# Altium footprint library trafo.PCBLIB: 80 footprints (part 3 of 5)
Each footprint in its own frame and in the unit in brackets; x right, y up, seen from the top. Pads: shape width x height; smd on the part's side, far side on the other; paste and mask are expansions set on the pad; w line width, h text height; cw(c..) or ccw(c..) is an arc to the next point about the centre after c.
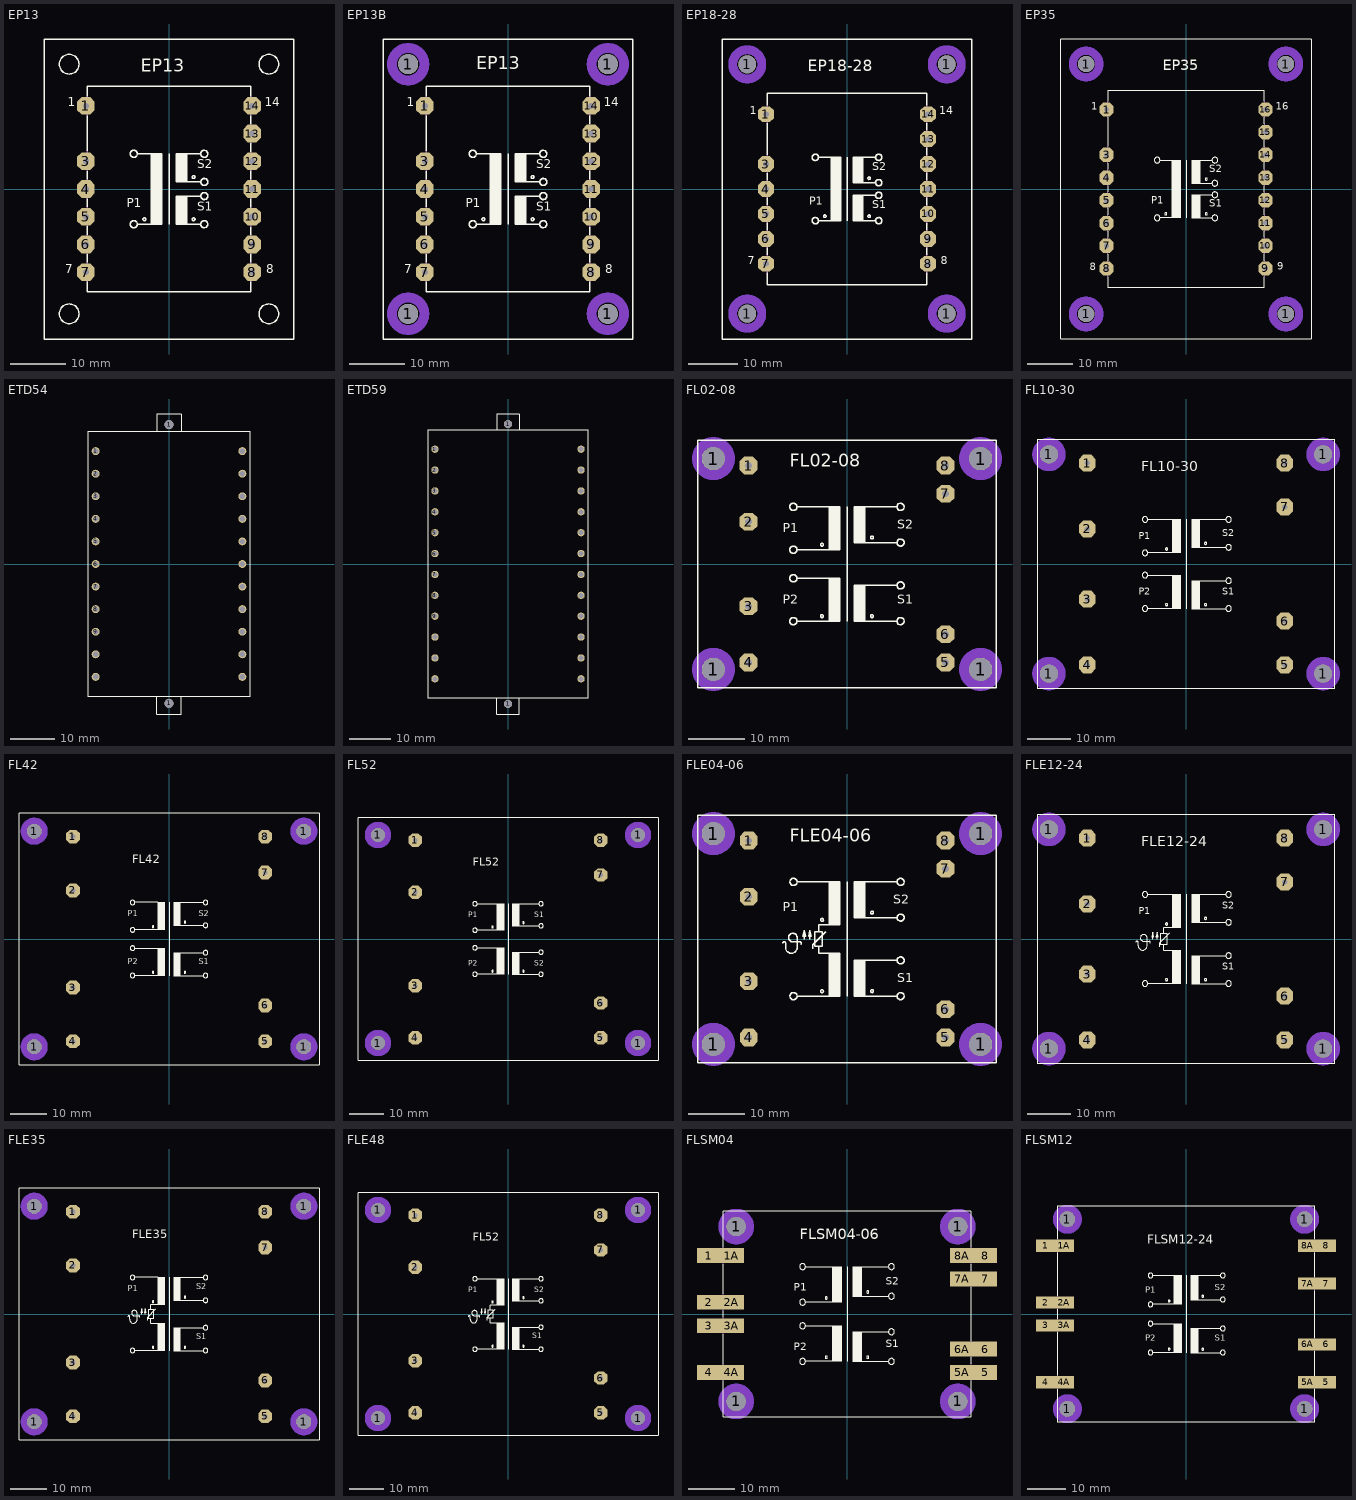
[diagram p2: the footprints below, top view; thin cyan lines are the x and y axes]

## EP13 [mil]
pads (13):
  oct 125x125 hole 44: 1(-590,590) 3(-590,197) 4(-590,0) 5(-590,-197) 6(-590,-394) 7(-590,-590) 8(590,-590) 9(590,-394) 10(590,-197) 11(590,0) 12(590,197) 13(590,394) 14(590,590)
Top Overlay:
  circle w10: c709,-886 r70
  circle w10: c-709,-886 r70
  circle w10: c-709,886 r70
  circle w10: c709,886 r70
  circle w10: c-175,-215 r10
  circle w10: c175,85 r10
  circle w10: c175,-215 r10
  circle w10: c-250,-250 r25
  circle w10: c-250,250 r25
  circle w10: c250,250 r25
  circle w10: c250,-250 r25
  circle w10: c250,-50 r25
  circle w10: c250,50 r25
  rectangle: -125,-250 -50,250
  rectangle: 50,50 125,250
  rectangle: 50,-250 125,-50
  lines w10: -580,-660 -580,-730 580,-730 580,-660 ; -580,-520 -580,-465 ; -580,-325 -580,-265 ; -580,-125 -580,-70 ; -580,70 -580,125 ; -580,270 -580,520 ; -580,660 -580,730 580,730 580,660 ; -225,-250 -125,-250 ; -225,250 -125,250 ; 0,-250 0,250 ; 225,-250 125,-250 ; 225,-50 125,-50 ; 225,50 125,50 ; 225,250 125,250 ; 580,-520 580,-465 ; 580,-325 580,-270 ; 580,-130 580,-70 ; 580,70 580,130 ; 580,265 580,325 ; 580,465 580,520 ; -125,-250 -125,250 ; -125,-250 -50,-250 -50,250 -125,250 ; 125,-250 50,-250 50,-50 125,-50 ; 125,-250 125,-50 ; 125,50 50,50 50,250 125,250 ; 125,50 125,250 ; -885,-1065 885,-1065 885,1065 -885,1065 -885,-1065
  text "1" at -720,565 h108.5
  text "S1" at 200,-175 h108.5
  text "P1" at -300,-150 h108.5
  text "S2" at 200,125 h108.5
  text "EP13" at -200,800 h155
  text "7" at -735,-620 h108.5
  text "8" at 690,-620 h108.5
  text "14" at 680,565 h108.5
Mechanical 16:
  lines w10: -580,-660 -580,-520 ; -580,-465 -580,-325 ; -580,-265 -580,-125 ; -580,-70 -580,70 ; -580,125 -580,270 ; -580,520 -580,660 ; 580,-660 580,-520 ; 580,-465 580,-325 ; 580,-270 580,-130 ; 580,-70 580,70 ; 580,130 580,265 ; 580,325 580,465 ; 580,520 580,660

## EP13B [mil]
pads (17):
  round 142 hole 142: 1(-709,-886) 1(-709,886) 1(709,-886) 1(709,886)
  oct 125x125 hole 44: 1(-590,590) 3(-590,197) 4(-590,0) 5(-590,-197) 6(-590,-394) 7(-590,-590) 8(590,-590) 9(590,-394) 10(590,-197) 11(590,0) 12(590,197) 13(590,394) 14(590,590)
Bottom Layer keep-out:
  circle w70: c-709,-886 r115
  circle w70: c-709,886 r115
  circle w70: c709,886 r115
  circle w70: c709,-886 r115
Top Overlay:
  circle w10: c-175,-215 r10
  circle w10: c175,85 r10
  circle w10: c175,-215 r10
  circle w10: c-250,-250 r25
  circle w10: c-250,250 r25
  circle w10: c250,250 r25
  circle w10: c250,-250 r25
  circle w10: c250,-50 r25
  circle w10: c250,50 r25
  rectangle: -125,-250 -50,250
  rectangle: 50,50 125,250
  rectangle: 50,-250 125,-50
  lines w10: -580,-660 -580,-730 580,-730 580,-660 ; -580,-520 -580,-465 ; -580,-325 -580,-265 ; -580,-125 -580,-70 ; -580,70 -580,125 ; -580,270 -580,520 ; -580,660 -580,730 580,730 580,660 ; -225,-250 -125,-250 ; -225,250 -125,250 ; 0,-250 0,250 ; 225,-250 125,-250 ; 225,-50 125,-50 ; 225,50 125,50 ; 225,250 125,250 ; 580,-520 580,-465 ; 580,-325 580,-270 ; 580,-130 580,-70 ; 580,70 580,130 ; 580,265 580,325 ; 580,465 580,520 ; -125,-250 -125,250 ; -125,-250 -50,-250 -50,250 -125,250 ; 125,-250 50,-250 50,-50 125,-50 ; 125,-250 125,-50 ; 125,50 50,50 50,250 125,250 ; 125,50 125,250 ; -885,-1065 885,-1065 885,1065 -885,1065 -885,-1065
  text "1" at -720,565 h108.5
  text "S1" at 200,-175 h108.5
  text "P1" at -300,-150 h108.5
  text "S2" at 200,125 h108.5
  text "EP13" at -225,820 h155
  text "7" at -735,-620 h108.5
  text "8" at 690,-620 h108.5
  text "14" at 680,565 h108.5
Mechanical 16:
  lines w10: -580,-660 -580,-520 ; -580,-465 -580,-325 ; -580,-265 -580,-125 ; -580,-70 -580,70 ; -580,125 -580,270 ; -580,520 -580,660 ; 580,-660 580,-520 ; 580,-465 580,-325 ; 580,-270 580,-130 ; 580,-70 580,70 ; 580,130 580,265 ; 580,325 580,465 ; 580,520 580,660
Via Holes:
  circle w70: c-709,-886 r115
  circle w70: c-709,886 r115
  circle w70: c709,886 r115
  circle w70: c709,-886 r115

## EP18-28 [mil]
pads (17):
  round 142 hole 142: 1(-788,-985) 1(-788,985) 1(788,-985) 1(788,985)
  oct 125x125 hole 44: 1(-640,590) 3(-640,197) 4(-640,0) 5(-640,-197) 6(-640,-394) 7(-640,-590) 8(640,-590) 9(640,-394) 10(640,-197) 11(640,0) 12(640,197) 13(640,394) 14(640,590)
Bottom Layer keep-out:
  circle w70: c-788,-985 r115
  circle w70: c-788,985 r115
  circle w70: c788,985 r115
  circle w70: c788,-985 r115
Top Overlay:
  circle w10: c-175,-215 r10
  circle w10: c175,85 r10
  circle w10: c175,-215 r10
  circle w10: c-250,-250 r25
  circle w10: c-250,250 r25
  circle w10: c250,250 r25
  circle w10: c250,-250 r25
  circle w10: c250,-50 r25
  circle w10: c250,50 r25
  rectangle: -125,-250 -50,250
  rectangle: 50,50 125,250
  rectangle: 50,-250 125,-50
  lines w10: -630,-660 -630,-755 630,-755 630,-660 ; -630,-520 -630,-465 ; -630,-325 -630,-265 ; -630,-125 -630,-70 ; -630,70 -630,125 ; -630,270 -630,520 ; -630,660 -630,755 630,755 630,660 ; -225,-250 -125,-250 ; -225,250 -125,250 ; 0,-250 0,250 ; 225,-250 125,-250 ; 225,-50 125,-50 ; 225,50 125,50 ; 225,250 125,250 ; 630,-520 630,-465 ; 630,-325 630,-270 ; 630,-130 630,-70 ; 630,70 630,130 ; 630,265 630,325 ; 630,465 630,520 ; -125,-250 -125,250 ; -125,-250 -50,-250 -50,250 -125,250 ; 125,-250 50,-250 50,-50 125,-50 ; 125,-250 125,-50 ; 125,50 50,50 50,250 125,250 ; 125,50 125,250 ; -985,-1185 985,-1185 985,1185 -985,1185 -985,-1185
  text "1" at -770,565 h108.5
  text "S1" at 200,-175 h108.5
  text "P1" at -300,-150 h108.5
  text "S2" at 200,125 h108.5
  text "7" at -785,-620 h108.5
  text "8" at 740,-620 h108.5
  text "14" at 730,565 h108.5
  text "EP18-28" at -310,900 h155
Mechanical 16:
  lines w10: -630,-660 -630,-520 ; -630,-465 -630,-325 ; -630,-265 -630,-125 ; -630,-70 -630,70 ; -630,125 -630,270 ; -630,520 -630,660 ; 630,-660 630,-520 ; 630,-465 630,-325 ; 630,-270 630,-130 ; 630,-70 630,70 ; 630,130 630,265 ; 630,325 630,465 ; 630,520 630,660
Via Holes:
  circle w70: c-788,-985 r115
  circle w70: c-788,985 r115
  circle w70: c788,985 r115
  circle w70: c788,-985 r115

## EP35 [mil]
pads (19):
  round 142 hole 142: 1(-866,-1083) 1(-866,1083) 1(866,-1083) 1(866,1083)
  oct 125x125 hole 44: 1(-689,689) 3(-689,296) 4(-689,99) 5(-689,-99) 6(-689,-296) 7(-689,-492) 8(-689,-689) 9(689,-689) 10(689,-492) 11(689,-296) 12(689,-99) 13(689,99) 14(689,296) 15(689,492) 16(689,689)
Bottom Layer keep-out:
  circle w70: c-866,-1083 r115
  circle w70: c-866,1083 r115
  circle w70: c866,1083 r115
  circle w70: c866,-1083 r115
Top Overlay:
  circle w10: c-175,-215 r10
  circle w10: c175,85 r10
  circle w10: c175,-215 r10
  circle w10: c-250,-250 r25
  circle w10: c-250,250 r25
  circle w10: c250,250 r25
  circle w10: c250,-250 r25
  circle w10: c250,-50 r25
  circle w10: c250,50 r25
  rectangle: -125,-250 -50,250
  rectangle: 50,50 125,250
  rectangle: 50,-250 125,-50
  lines w10: -680,-760 -680,-855 680,-855 680,-760 ; -680,-620 -680,-565 ; -680,-420 -680,-365 ; -680,-225 -680,-165 ; -680,-25 -680,30 ; -680,170 -680,225 ; -680,370 -680,620 ; -680,760 -680,855 680,855 680,760 ; -225,-250 -125,-250 ; -225,250 -125,250 ; 0,-250 0,250 ; 225,-250 125,-250 ; 225,-50 125,-50 ; 225,50 125,50 ; 225,250 125,250 ; 680,-620 680,-560 ; 680,-420 680,-365 ; 680,-225 680,-170 ; 680,-30 680,30 ; 680,170 680,230 ; 680,365 680,425 ; 680,565 680,620 ; -125,-250 -125,250 ; -125,-250 -50,-250 -50,250 -125,250 ; 125,-250 50,-250 50,-50 125,-50 ; 125,-250 125,-50 ; 125,50 50,50 50,250 125,250 ; 125,50 125,250 ; -1085,-1300 1085,-1300 1085,1300 -1085,1300 -1085,-1300
  text "1" at -820,665 h108.5
  text "S1" at 200,-175 h108.5
  text "P1" at -300,-150 h108.5
  text "S2" at 200,125 h108.5
  text "EP35" at -200,1000 h155
  text "8" at -835,-725 h108.5
  text "9" at 790,-720 h108.5
  text "16" at 780,665 h108.5
Mechanical 16:
  lines w10: -680,-760 -680,-620 ; -680,-565 -680,-420 ; -680,-365 -680,-225 ; -680,-165 -680,-25 ; -680,30 -680,170 ; -680,225 -680,370 ; -680,620 -680,760 ; 680,-760 680,-620 ; 680,-560 680,-420 ; 680,-365 680,-225 ; 680,-170 680,-30 ; 680,30 680,170 ; 680,230 680,365 ; 680,425 680,565 ; 680,620 680,760
Via Holes:
  circle w70: c-866,-1083 r115
  circle w70: c-866,1083 r115
  circle w70: c866,1083 r115
  circle w70: c866,-1083 r115

## ETD54 [mil]
pads (24):
  round 70 hole 47.24: 1(-650,1000) 2(-650,800) 3(-650,600) 4(-650,400) 5(-650,200) 6(-650,0) 7(-650,-200) 8(-650,-400) 9(-650,-600) 10(-650,-800) 11(-650,-1000) 12(650,-1000) 13(650,-800) 14(650,-600) 15(650,-400) 16(650,-200) 17(650,0) 18(650,200) 19(650,400) 20(650,600) 21(650,800) 22(650,1000)
  round 78.74 hole 78.74: 1(0,-1234.25) 1(0,1234.25)
Top Overlay:
  lines w8: -106.3,-1177.17 -106.3,-1328.74 106.3,-1328.74 106.3,-1177.17 ; -106.3,1177.17 -716.54,1177.17 -716.54,-1177.17 716.54,-1177.17 716.54,1177.17 106.3,1177.17 ; -106.3,1177.17 106.3,1177.17 ; -106.3,1177.17 -106.3,1328.74 106.3,1328.74 106.3,1177.17

## ETD59 [mil]
pads (26):
  round 70 hole 47.24: 1(-700,1100) 2(-700,900) 3(-700,700) 4(-700,500) 5(-700,300) 6(-700,100) 7(-700,-100) 8(-700,-300) 9(-700,-500) 10(-700,-700) 11(-700,-900) 12(-700,-1100) 13(700,-1100) 14(700,-900) 15(700,-700) 16(700,-500) 17(700,-300) 18(700,-100) 19(700,100) 20(700,300) 21(700,500) 22(700,700) 23(700,900) 24(700,1100)
  round 78.74 hole 78.74: 1(0,-1340.55) 1(0,1340.55)
Top Overlay:
  lines w8: -106.3,-1285.43 -106.3,-1437.01 106.3,-1437.01 106.3,-1285.43 ; -106.3,1285.43 -765.75,1285.43 -765.75,-1285.43 764.76,-1284.45 765.75,1285.43 106.3,1285.43 ; -106.3,1285.43 106.3,1285.43 ; -106.3,1285.43 -106.3,1437.01 106.3,1437.01 106.3,1285.43

## FL02-08 [mil]
pads (12):
  round 162 hole 162: 1(-935,-738) 1(-935,738) 1(935,-738) 1(935,738)
  oct 125x125 hole 47: 1(-689,689) 2(-689,296) 3(-689,-296) 4(-689,-689) 5(689,-689) 6(689,-492) 7(689,492) 8(689,689)
Bottom Layer keep-out:
  circle w70: c935,738 r115
  circle w70: c935,-738 r115
  circle w70: c-935,-738 r115
  circle w70: c-935,738 r115
Top Overlay:
  circle w10: c-175,135 r10
  circle w10: c175,185 r10
  circle w10: c175,-365 r10
  circle w10: c-175,-365 r10
  circle w10: c375,150 r25
  circle w10: c375,400 r25
  circle w10: c-375,400 r25
  circle w10: c-375,100 r25
  circle w10: c-375,-100 r25
  circle w10: c-375,-400 r25
  circle w10: c375,-400 r25
  circle w10: c375,-150 r25
  rectangle: -125,100 -50,400
  rectangle: 50,150 125,400
  rectangle: -125,-400 -50,-100
  rectangle: 50,-400 125,-150
  lines w10: -350,-400 -125,-400 ; -350,-100 -125,-100 ; -350,100 -125,100 ; -350,400 -125,400 ; 0,-400 0,400 ; 350,-400 125,-400 ; 350,-150 125,-150 ; 350,150 125,150 ; 350,400 125,400 ; -125,-400 -125,-100 ; -125,-400 -50,-400 -50,-100 -125,-100 ; -125,100 -125,400 ; -125,100 -50,100 -50,400 -125,400 ; 125,-400 50,-400 50,-150 125,-150 ; 125,-400 125,-150 ; 125,150 50,150 50,400 125,400 ; 125,150 125,400 ; -1044,-866 1044,-866 1044,866 -1044,866 -1044,-866
  text "S1" at 350,-300 h108.5
  text "S2" at 350,225 h108.5
  text "P2" at -450,-300 h108.5
  text "P1" at -450,200 h108.5
  text "FL02-08" at -400,650 h155
Via Holes:
  circle w70: c935,738 r115
  circle w70: c935,-738 r115
  circle w70: c-935,-738 r115
  circle w70: c-935,738 r115

## FL10-30 [mil]
pads (12):
  round 162 hole 162: 1(-1231,-984) 1(-1231,984) 1(1231,-984) 1(1231,984)
  oct 150x150 hole 47: 1(-886,906) 2(-886,315) 3(-886,-315) 4(-886,-906) 5(886,-906) 6(886,-512) 7(886,512) 8(886,906)
Bottom Layer keep-out:
  circle w70: c-1231,984 r115
  circle w70: c1231,984 r115
  circle w70: c1231,-984 r115
  circle w70: c-1231,-984 r115
Top Overlay:
  circle w10: c-175,135 r10
  circle w10: c175,185 r10
  circle w10: c175,-365 r10
  circle w10: c-175,-365 r10
  circle w10: c382,150 r25
  circle w10: c382,400 r25
  circle w10: c-368,400 r25
  circle w10: c-368,100 r25
  circle w10: c-368,-100 r25
  circle w10: c-368,-400 r25
  circle w10: c382,-400 r25
  circle w10: c382,-150 r25
  rectangle: 50,-400 125,-150
  rectangle: -125,-400 -50,-100
  rectangle: -125,100 -50,400
  rectangle: 50,150 125,400
  lines w10: -340,-400 -125,-400 ; -340,-100 -125,-100 ; -340,100 -125,100 ; -340,400 -125,400 ; 0,-400 0,400 ; 355,-400 125,-400 ; 355,-150 125,-150 ; 355,150 125,150 ; 355,400 125,400 ; -125,-400 -125,-100 ; -125,-400 -50,-400 -50,-100 -125,-100 ; -125,100 -125,400 ; -125,100 -50,100 -50,400 -125,400 ; 125,-400 50,-400 50,-150 125,-150 ; 125,-400 125,-150 ; 125,150 50,150 50,400 125,400 ; 125,150 125,400 ; -1335,-1122 -1335,1122 1335,1122 1335,-1122 -1335,-1122
  text "FL10-30" at -400,800 h155
  text "S1" at 325,-300 h108.5
  text "S2" at 325,225 h108.5
  text "P2" at -425,-300 h108.5
  text "P1" at -425,200 h108.5
Via Holes:
  circle w70: c-1232,984 r115
  circle w70: c1231,985 r115
  circle w70: c1231,-984 r115
  circle w70: c-1231,-984 r115

## FL42 [mil]
pads (12):
  round 162 hole 162: 1(-1477,-1181) 1(-1477,1181) 1(1477,-1181) 1(1477,1181)
  oct 150x150 hole 52: 1(-1053,1122) 2(-1053,532) 3(-1053,-532) 4(-1053,-1122) 5(1053,-1122) 6(1053,-728) 7(1053,728) 8(1053,1122)
Bottom Layer keep-out:
  circle w70: c-1477,-1181 r113
  circle w70: c1477,-1181 r113
  circle w70: c1477,1181 r113
  circle w70: c-1477,1181 r113
Top Overlay:
  circle w10: c-175,135 r10
  circle w10: c175,185 r10
  circle w10: c175,-365 r10
  circle w10: c-175,-365 r10
  circle w10: c-400,400 r25
  circle w10: c-400,100 r25
  circle w10: c-400,-100 r25
  circle w10: c-400,-400 r25
  circle w10: c400,-400 r25
  circle w10: c400,-150 r25
  circle w10: c400,150 r25
  circle w10: c400,400 r25
  rectangle: -125,100 -50,400
  rectangle: -125,-400 -50,-100
  rectangle: 50,150 125,400
  rectangle: 50,-400 125,-150
  lines w10: -375,-400 -125,-400 ; -375,-100 -125,-100 ; -375,100 -125,100 ; -375,400 -125,400 ; 0,-400 0,400 ; 375,-400 125,-400 ; 375,-150 125,-150 ; 375,150 125,150 ; 375,400 125,400 ; -125,-400 -125,-100 ; -125,-400 -50,-400 -50,-100 -125,-100 ; -125,100 -125,400 ; -125,100 -50,100 -50,400 -125,400 ; 125,-400 50,-400 50,-150 125,-150 ; 125,-400 125,-150 ; 125,150 50,150 50,400 125,400 ; 125,150 125,400 ; -1644,-1378 1643,-1378 1643,1378 -1644,1378 -1644,-1378
  text "FL42" at -401,799 h155
  text "S1" at 325,-300 h108.5
  text "S2" at 325,225 h108.5
  text "P2" at -450,-300 h108.5
  text "P1" at -450,225 h108.5
Via Holes:
  circle w70: c-1477,-1181 r113
  circle w70: c1477,-1181 r113
  circle w70: c1477,1181 r113
  circle w70: c-1477,1181 r113

## FL52 [mil]
pads (12):
  round 162 hole 162: 1(-1476,-1181) 1(-1476,1181) 1(1476,-1181) 1(1476,1181)
  oct 150x150 hole 55: 1(-1053,1122) 2(-1053,531) 3(-1053,-531) 4(-1053,-1122) 5(1053,-1122) 6(1053,-728) 7(1053,728) 8(1053,1122)
Bottom Layer keep-out:
  circle w70: c-1476,-1181 r115
  circle w70: c-1476,1181 r115
  circle w70: c1476,1181 r115
  circle w70: c1476,-1181 r115
Top Overlay:
  circle w10: c-175,135 r10
  circle w10: c175,185 r10
  circle w10: c175,-365 r10
  circle w10: c-175,-365 r10
  circle w10: c375,150 r25
  circle w10: c375,400 r25
  circle w10: c-375,100 r25
  circle w10: c-375,400 r25
  circle w10: c-375,-100 r25
  circle w10: c-375,-400 r25
  circle w10: c375,-400 r25
  circle w10: c375,-150 r25
  rectangle: -125,100 -50,400
  rectangle: 50,150 125,400
  rectangle: -125,-400 -50,-100
  rectangle: 50,-400 125,-150
  lines w10: -350,-400 -125,-400 ; -350,-100 -125,-100 ; -350,100 -125,100 ; -350,400 -125,400 ; 0,-400 0,400 ; 350,-400 125,-400 ; 350,-150 125,-150 ; 350,150 125,150 ; 350,400 125,400 ; -125,-400 -125,-100 ; -125,-400 -50,-400 -50,-100 -125,-100 ; -125,100 -125,400 ; -125,100 -50,100 -50,400 -125,400 ; 125,-400 50,-400 50,-150 125,-150 ; 125,-400 125,-150 ; 125,150 50,150 50,400 125,400 ; 125,150 125,400 ; -1703,-1378 1703,-1378 1703,1378 -1703,1378 -1703,-1378
  text "FL52" at -403,797 h155
  text "S1" at 300,225 h108.5
  text "S2" at 300,-325 h108.5
  text "P2" at -450,-325 h108.5
  text "P1" at -450,225 h108.5
Via Holes:
  circle w70: c-1476,-1181 r115
  circle w70: c-1476,1181 r115
  circle w70: c1476,1181 r115
  circle w70: c1476,-1181 r115

## FLE04-06 [mil]
pads (12):
  round 162 hole 162: 1(-936,-738) 1(-936,738) 1(935,-738) 1(935,738)
  oct 125x125 hole 47: 1(-689,689) 2(-689,296) 3(-689,-296) 4(-689,-689) 5(689,-689) 6(689,-492) 7(689,492) 8(689,689)
Bottom Layer keep-out:
  circle w70: c935,738 r115
  circle w70: c935,-738 r115
  circle w70: c-936,-738 r115
  circle w70: c-936,738 r115
Top Overlay:
  circle w10: c-175,134 r10
  circle w10: c175,185 r10
  circle w10: c175,-365 r10
  circle w10: c-175,-366 r10
  circle w10: c375,150 r25
  circle w10: c375,400 r25
  circle w10: c-375,400 r25
  circle w10: c-375,-400 r25
  circle w10: c375,-400 r25
  circle w10: c375,-150 r25
  rectangle: -125,100 -50,400
  rectangle: 50,150 125,400
  rectangle: -125,-400 -50,-100
  rectangle: 50,-400 125,-150
  lines w10: -450,-30 cw(c-440,-30) -430,-30 -430,-60 ccw(c-390,-60) -350,-60 -350,10 ccw(c-380,10) -380,-20 -330,-20 cw(c-330,-30) -322.93,-37.07 ; -350,-400 -125,-400 ; -350,400 -125,400 ; -300,0 -300,60 ; -260,0 -260,60 ; -240,-70 -240,-40 -150,50 ; 0,-400 0,400 ; 350,-400 125,-400 ; 350,-150 125,-150 ; 350,150 125,150 ; 350,400 125,400 ; -300,60 -310,20 -290,20 -300,60 ; -260,60 -270,20 -250,20 -260,60 ; -200,-50 -200,-100 -125,-100 ; -200,-50 -175,-50 -175,50 -200,50 ; -200,-50 -225,-50 -225,50 -200,50 ; -200,50 -200,100 -125,100 ; -125,-400 -125,-100 ; -125,-400 -50,-400 -50,-100 -125,-100 ; -125,100 -125,400 ; -125,100 -50,100 -50,400 -125,400 ; 125,-400 50,-400 50,-150 125,-150 ; 125,-400 125,-150 ; 125,150 50,150 50,400 125,400 ; 125,150 125,400 ; -1044,-866 1044,-866 1044,866 -1044,866 -1044,-866
  text "S1" at 350,-325 h108.5
  text "S2" at 325,225 h108.5
  text "P1" at -450,174 h108.5
  text "FLE04-06" at -400,650 h155
Via Holes:
  circle w70: c935,738 r115
  circle w70: c935,-738 r115
  circle w70: c-936,-738 r115
  circle w70: c-936,738 r115

## FLE12-24 [mil]
pads (12):
  round 162 hole 162: 1(-1231,-984) 1(-1231,984) 1(1231,-984) 1(1231,984)
  oct 150x150 hole 47: 1(-886,906) 2(-886,315) 3(-886,-315) 4(-886,-906) 5(886,-906) 6(886,-512) 7(886,512) 8(886,906)
Bottom Layer keep-out:
  circle w70: c-1231,984 r115
  circle w70: c1231,984 r115
  circle w70: c1231,-984 r115
  circle w70: c-1231,-984 r115
Top Overlay:
  circle w10: c-175,135 r10
  circle w10: c175,185 r10
  circle w10: c175,-365 r10
  circle w10: c-175,-365 r10
  circle w10: c382,150 r25
  circle w10: c382,400 r25
  circle w10: c-368,400 r25
  circle w10: c-368,-400 r25
  circle w10: c382,-400 r25
  circle w10: c382,-150 r25
  rectangle: 50,-400 125,-150
  rectangle: -125,-400 -50,-100
  rectangle: -125,100 -50,400
  rectangle: 50,150 125,400
  lines w10: -450,-30 cw(c-440,-30) -430,-30 -430,-60 ccw(c-390,-60) -350,-60 -350,10 ccw(c-380,10) -380,-20 -330,-20 cw(c-330,-30) -322.93,-37.07 ; -340,-400 -125,-400 ; -340,400 -125,400 ; -300,0 -300,60 ; -260,0 -260,60 ; -240,-70 -240,-40 -150,50 ; 0,-400 0,400 ; 355,-400 125,-400 ; 355,-150 125,-150 ; 355,150 125,150 ; 355,400 125,400 ; -300,60 -310,20 -290,20 -300,60 ; -260,60 -270,20 -250,20 -260,60 ; -200,-50 -200,-100 -125,-100 ; -200,-50 -175,-50 -175,50 -200,50 ; -200,-50 -225,-50 -225,50 -200,50 ; -200,50 -200,100 -125,100 ; -125,-400 -125,-100 ; -125,-400 -50,-400 -50,-100 -125,-100 ; -125,100 -125,400 ; -125,100 -50,100 -50,400 -125,400 ; 125,-400 50,-400 50,-150 125,-150 ; 125,-400 125,-150 ; 125,150 50,150 50,400 125,400 ; 125,150 125,400 ; -1335,-1122 -1335,1122 1335,1122 1335,-1122 -1335,-1122
  text "S1" at 325,-300 h108.5
  text "S2" at 325,250 h108.5
  text "P1" at -425,200 h108.5
  text "FLE12-24" at -400,800 h155
Via Holes:
  circle w70: c-1232,984 r115
  circle w70: c1231,985 r115
  circle w70: c1231,-984 r115
  circle w70: c-1231,-984 r115

## FLE35 [mil]
pads (12):
  round 162 hole 162: 1(-1477,-1181) 1(-1477,1181) 1(1477,-1181) 1(1477,1181)
  oct 150x150 hole 52: 1(-1053,1122) 2(-1053,532) 3(-1053,-532) 4(-1053,-1122) 5(1053,-1122) 6(1053,-728) 7(1053,728) 8(1053,1122)
Bottom Layer keep-out:
  circle w70: c-1477,-1181 r113
  circle w70: c1477,-1181 r113
  circle w70: c1477,1181 r113
  circle w70: c-1477,1181 r113
Top Overlay:
  circle w10: c-175,135 r10
  circle w10: c175,185 r10
  circle w10: c175,-365 r10
  circle w10: c-175,-365 r10
  circle w10: c-400,400 r25
  circle w10: c-400,-400 r25
  circle w10: c400,-400 r25
  circle w10: c400,-150 r25
  circle w10: c400,150 r25
  circle w10: c400,400 r25
  rectangle: -125,100 -50,400
  rectangle: -125,-400 -50,-100
  rectangle: 50,150 125,400
  rectangle: 50,-400 125,-150
  lines w10: -450,-30 cw(c-440,-30) -430,-30 -430,-60 ccw(c-390,-60) -350,-60 -350,10 ccw(c-380,10) -380,-20 -330,-20 cw(c-330,-30) -322.93,-37.07 ; -375,-400 -125,-400 ; -375,400 -125,400 ; -300,0 -300,60 ; -260,0 -260,60 ; -240,-70 -240,-40 -150,50 ; 0,-400 0,400 ; 375,-400 125,-400 ; 375,-150 125,-150 ; 375,150 125,150 ; 375,400 125,400 ; -300,60 -310,20 -290,20 -300,60 ; -260,60 -270,20 -250,20 -260,60 ; -200,-50 -200,-100 -125,-100 ; -200,-50 -175,-50 -175,50 -200,50 ; -200,-50 -225,-50 -225,50 -200,50 ; -200,50 -200,100 -125,100 ; -125,-400 -125,-100 ; -125,-400 -50,-400 -50,-100 -125,-100 ; -125,100 -125,400 ; -125,100 -50,100 -50,400 -125,400 ; 125,-400 50,-400 50,-150 125,-150 ; 125,-400 125,-150 ; 125,150 50,150 50,400 125,400 ; 125,150 125,400 ; -1644,-1378 1643,-1378 1643,1378 -1644,1378 -1644,-1378
  text "S1" at 300,-300 h108.5
  text "S2" at 300,250 h108.5
  text "P1" at -450,225 h108.5
  text "FLE35" at -401,799 h155
Via Holes:
  circle w70: c-1477,-1181 r113
  circle w70: c1477,-1181 r113
  circle w70: c1477,1181 r113
  circle w70: c-1477,1181 r113

## FLE48 [mil]
pads (12):
  round 162 hole 162: 1(-1476,-1181) 1(-1476,1181) 1(1476,-1181) 1(1476,1181)
  oct 150x150 hole 55: 1(-1053,1122) 2(-1053,531) 3(-1053,-531) 4(-1053,-1122) 5(1053,-1122) 6(1053,-728) 7(1053,728) 8(1053,1122)
Bottom Layer keep-out:
  circle w70: c-1476,-1181 r115
  circle w70: c-1476,1181 r115
  circle w70: c1476,1181 r115
  circle w70: c1476,-1181 r115
Top Overlay:
  circle w10: c-175,135 r10
  circle w10: c175,185 r10
  circle w10: c175,-365 r10
  circle w10: c-175,-365 r10
  circle w10: c375,150 r25
  circle w10: c375,400 r25
  circle w10: c-375,400 r25
  circle w10: c-375,-400 r25
  circle w10: c375,-400 r25
  circle w10: c375,-150 r25
  rectangle: -125,100 -50,400
  rectangle: 50,150 125,400
  rectangle: -125,-400 -50,-100
  rectangle: 50,-400 125,-150
  lines w10: -450,-30 cw(c-440,-30) -430,-30 -430,-60 ccw(c-390,-60) -350,-60 -350,10 ccw(c-380,10) -380,-20 -330,-20 cw(c-330,-30) -322.93,-37.07 ; -350,-400 -125,-400 ; -350,400 -125,400 ; -300,0 -300,60 ; -260,0 -260,60 ; -240,-70 -240,-40 -150,50 ; 0,-400 0,400 ; 350,-400 125,-400 ; 350,-150 125,-150 ; 350,150 125,150 ; 350,400 125,400 ; -300,60 -310,20 -290,20 -300,60 ; -260,60 -270,20 -250,20 -260,60 ; -200,-50 -200,-100 -125,-100 ; -200,-50 -175,-50 -175,50 -200,50 ; -200,-50 -225,-50 -225,50 -200,50 ; -200,50 -200,100 -125,100 ; -125,-400 -125,-100 ; -125,-400 -50,-400 -50,-100 -125,-100 ; -125,100 -125,400 ; -125,100 -50,100 -50,400 -125,400 ; 125,-400 50,-400 50,-150 125,-150 ; 125,-400 125,-150 ; 125,150 50,150 50,400 125,400 ; 125,150 125,400 ; -1703,-1378 1703,-1378 1703,1378 -1703,1378 -1703,-1378
  text "FL52" at -403,797 h155
  text "S1" at 275,-300 h108.5
  text "S2" at 300,225 h108.5
  text "P1" at -450,225 h108.5
Via Holes:
  circle w70: c-1476,-1181 r115
  circle w70: c-1476,1181 r115
  circle w70: c1476,1181 r115
  circle w70: c1476,-1181 r115

## FLSM04 [mil]
pads (20):
  rect 200x126 smd: 1(-1166,493) 1A(-971,493) 2(-1166,99) 2A(-971,99) 3(-1166,-99) 3A(-971,-99) 4(-1166,-492) 4A(-971,-492) 5(1166,-492) 5A(971,-492) 6(1166,-296) 6A(971,-296) 7(1166,296) 7A(971,296) 8(1166,493) 8A(971,493)
  round 162 hole 162: 1(-935,-738) 1(-935,738) 1(935,-738) 1(935,738)
Bottom Layer keep-out:
  circle w70: c935,738 r115
  circle w70: c935,-738 r115
  circle w70: c-935,-738 r115
  circle w70: c-935,738 r115
Top Overlay:
  circle w10: c-175,135 r10
  circle w10: c175,185 r10
  circle w10: c175,-365 r10
  circle w10: c-175,-365 r10
  circle w10: c375,150 r25
  circle w10: c375,400 r25
  circle w10: c-375,400 r25
  circle w10: c-375,100 r25
  circle w10: c-375,-100 r25
  circle w10: c-375,-400 r25
  circle w10: c375,-400 r25
  circle w10: c375,-150 r25
  rectangle: -125,100 -50,400
  rectangle: 50,150 125,400
  rectangle: -125,-400 -50,-100
  rectangle: 50,-400 125,-150
  lines w10: -1044,-562 -1044,-866 1044,-866 1044,-563 ; -1044,-422 -1044,-171 ; -1044,-28 -1044,29 ; -1044,170 -1044,421 ; -1044,565 -1044,866 1044,866 1044,565 ; -350,-400 -125,-400 ; -350,-100 -125,-100 ; -350,100 -125,100 ; -350,400 -125,400 ; 0,-400 0,400 ; 350,-400 125,-400 ; 350,-150 125,-150 ; 350,150 125,150 ; 350,400 125,400 ; 1044,-420 1044,-366 ; 1044,-225 1044,226 ; 1044,366 1044,422 ; -125,-400 -125,-100 ; -125,-400 -50,-400 -50,-100 -125,-100 ; -125,100 -125,400 ; -125,100 -50,100 -50,400 -125,400 ; 125,-400 50,-400 50,-150 125,-150 ; 125,-400 125,-150 ; 125,150 50,150 50,400 125,400 ; 125,150 125,400
  text "S1" at 325,-300 h108.5
  text "S2" at 325,225 h108.5
  text "P2" at -450,-325 h108.5
  text "P1" at -450,175 h108.5
  text "FLSM04-06" at -400,600 h155
Mechanical 16:
  rectangle: 1044,-527 1204,-477
  rectangle: 1139,-477 1204,-457
  rectangle: 1044,-332 1204,-282
  rectangle: 1139,-282 1204,-262
  rectangle: 1044,261 1204,311
  rectangle: 1139,311 1204,331
  rectangle: 1044,457 1204,507
  rectangle: 1139,507 1204,527
  rectangle: -1204,457 -1139,477
  rectangle: -1204,477 -1044,527
  rectangle: -1204,84 -1044,134
  rectangle: -1204,-114 -1044,-64
  rectangle: -1204,-507 -1044,-457
  rectangle: -1205,64 -1140,84
  rectangle: -1204,-134 -1139,-114
  rectangle: -1204,-527 -1139,-507
  lines w10: -1044,-562 -1044,-422 ; -1044,-507 -1139,-507 -1139,-527 -1204,-527 -1204,-457 -1044,-457 ; -1044,-171 -1044,-28 ; -1044,-114 -1139,-114 -1139,-134 -1204,-134 -1204,-64 -1044,-64 ; -1044,29 -1044,170 ; -1044,84 -1139,84 -1139,64 -1204,64 -1204,134 -1044,134 ; -1044,421 -1044,565 ; -1044,477 -1139,477 -1139,457 -1204,457 -1204,527 -1044,527 ; 1044,-563 1044,-420 ; 1044,-527 1204,-527 1204,-457 1139,-457 1139,-477 1044,-477 ; 1044,-366 1044,-225 ; 1044,-331 1204,-331 1204,-261 1139,-261 1139,-281 1044,-281 ; 1044,226 1044,366 ; 1044,261 1204,261 1204,331 1139,331 1139,311 1044,311 ; 1044,422 1044,565 ; 1044,457 1204,457 1204,527 1139,527 1139,507 1044,507
Via Holes:
  circle w70: c935,738 r115
  circle w70: c935,-738 r115
  circle w70: c-935,-738 r115
  circle w70: c-935,738 r115

## FLSM12 [mil]
pads (20):
  rect 200x126 smd: 1(-1457,709) 1A(-1262,709) 2(-1457,119) 2A(-1262,119) 3(-1457,-119) 3A(-1262,-119) 4(-1457,-709) 4A(-1262,-709) 5(1457,-709) 5A(1262,-709) 6(1457,-315) 6A(1262,-315) 7(1457,315) 7A(1262,315) 8(1457,709) 8A(1262,709)
  round 162 hole 162: 1(-1231,-984) 1(-1231,984) 1(1231,-984) 1(1231,984)
Bottom Layer keep-out:
  circle w70: c-1231,984 r115
  circle w70: c1231,984 r115
  circle w70: c1231,-984 r115
  circle w70: c-1231,-984 r115
Top Overlay:
  circle w10: c-175,135 r10
  circle w10: c175,185 r10
  circle w10: c175,-365 r10
  circle w10: c-175,-365 r10
  circle w10: c382,150 r25
  circle w10: c382,400 r25
  circle w10: c-368,400 r25
  circle w10: c-368,100 r25
  circle w10: c-368,-100 r25
  circle w10: c-368,-400 r25
  circle w10: c382,-400 r25
  circle w10: c382,-150 r25
  rectangle: 50,-400 125,-150
  rectangle: -125,-400 -50,-100
  rectangle: -125,100 -50,400
  rectangle: 50,150 125,400
  lines w10: -1335,-783 -1335,-1122 1335,-1122 1335,-781 ; -1335,-638 -1335,-192 ; -1335,-48 -1335,48 ; -1335,190 -1335,638 ; -1335,781 -1335,1122 1335,1122 1335,780 ; -340,-400 -125,-400 ; -340,-100 -125,-100 ; -340,100 -125,100 ; -340,400 -125,400 ; 0,-400 0,400 ; 355,-400 125,-400 ; 355,-150 125,-150 ; 355,150 125,150 ; 355,400 125,400 ; 1335,-639 1335,-385 ; 1335,-244 1335,243 ; 1335,386 1335,637 ; -125,-400 -125,-100 ; -125,-400 -50,-400 -50,-100 -125,-100 ; -125,100 -125,400 ; -125,100 -50,100 -50,400 -125,400 ; 125,-400 50,-400 50,-150 125,-150 ; 125,-400 125,-150 ; 125,150 50,150 50,400 125,400 ; 125,150 125,400
  text "S1" at 300,-300 h108.5
  text "S2" at 300,225 h108.5
  text "P2" at -425,-300 h108.5
  text "P1" at -425,200 h108.5
  text "FLSM12-24" at -400,700 h155
Mechanical 16:
  rectangle: 1335,-745 1495,-695
  rectangle: 1430,-695 1495,-675
  rectangle: 1335,-350 1495,-300
  rectangle: 1430,-300 1495,-280
  rectangle: 1335,280 1495,330
  rectangle: 1430,330 1495,350
  rectangle: 1335,675 1495,725
  rectangle: 1430,725 1495,745
  rectangle: -1495,695 -1335,745
  rectangle: -1495,675 -1430,695
  rectangle: -1495,105 -1335,155
  rectangle: -1495,-135 -1335,-85
  rectangle: -1495,-725 -1335,-675
  rectangle: -1495,85 -1430,105
  rectangle: -1495,-155 -1430,-135
  rectangle: -1495,-745 -1430,-725
  lines w10: -1335,-783 -1335,-638 ; -1335,-724 -1430,-724 -1430,-744 -1495,-744 -1495,-674 -1335,-674 ; -1335,-192 -1335,-48 ; -1335,-134 -1430,-134 -1430,-154 -1495,-154 -1495,-84 -1335,-84 ; -1335,48 -1335,190 ; -1335,104 -1430,104 -1430,84 -1495,84 -1495,154 -1335,154 ; -1335,638 -1335,781 ; -1335,694 -1430,694 -1430,674 -1495,674 -1495,744 -1335,744 ; 1335,-781 1335,-639 ; 1335,-744 1495,-744 1495,-674 1430,-674 1430,-694 1335,-694 ; 1335,-385 1335,-244 ; 1335,-350 1495,-350 1495,-280 1430,-280 1430,-300 1335,-300 ; 1335,243 1335,386 ; 1335,280 1495,280 1495,350 1430,350 1430,330 1335,330 ; 1335,637 1335,780 ; 1335,674 1495,674 1495,744 1430,744 1430,724 1335,724
Via Holes:
  circle w70: c-1232,984 r115
  circle w70: c1231,985 r115
  circle w70: c1231,-984 r115
  circle w70: c-1231,-984 r115